# Altium schematic symbol library MINI_360.SchLib: 1 symbol
Pins are listed as number, name and electrical type; pins without a type are passive.

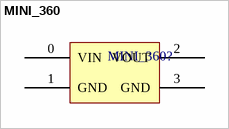
[diagram p0: symbol MINI_360]

## MINI_360
designator MINI_360?
footprint MINI_360
pins: 0 VIN, 1 GND, 2 VOUT, 3 GND